# EAGLE library part 6120XX22021_61202622021 (library Eagle_WR-BHD (rev21a))
WR-BHD 2.54 mm Male Box Header with short lever KIND PROPERTIES: Pitch 2.54 mm Gender:Male MATERIAL PROPERTIES: Insulator Material:PBT Insulator Flammability Rating UL94 V-0 Insulator Color:Black Contact Material :Copper Alloy Contact Plating :Gold Contact Type: Stamped GENERAL INFORMATION: Operating Temperature:-40 °C up to +125 °C Compliance:RoHS Working Voltage: 250 V (AC) Withstanding Voltage:500 V (AC) Contact Resistance: 20 mΩ Insulation Resistance:1000 MΩ PACKAGING PROPERTIES Packaging :Tray <https://www.we-online.de/katalog/media/o77864v209%20Family_61201022821.jpg> Details see: https://www.we-online.de/katalog/en/em/BHD_2_54_MALE_BOX_HEADER_WITH_SHORT_LEVER_6120XX22021 Updated by Yingchun,Shan 2019-10-30 2019 (C) Würth Elektronik
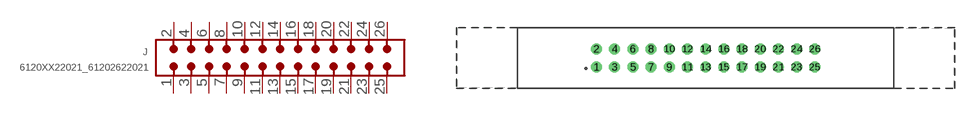
[diagram p149: symbol with the pads of 61202622021; footprint 61202622021]

Designator prefix J

## 6120XX22021_61202622021 (CONTACT-RESISTANCE: 20mOhm; DATASHEET-URL: https://www.we-online.com/catalog/datasheet/61202622021.pdf; GENDER: Male; IR: 3A; L: 52.52mm; MOUNT: THT; PACKAGING: Tray; PART-NUMBER: 61202622021; PINS: 26; PITCH: 2.54mm; TYPE: Straight; VALUE: 61202622021; WORKING-VOLTAGE: 250V(AC))  [61202622021]
1  1  pas
2  2  pas
3  3  pas
4  4  pas
5  5  pas
6  6  pas
7  7  pas
8  8  pas
9  9  pas
10  10  pas
11  11  pas
12  12  pas
13  13  pas
14  14  pas
15  15  pas
16  16  pas
17  17  pas
18  18  pas
19  19  pas
20  20  pas
21  21  pas
22  22  pas
23  23  pas
24  24  pas
25  25  pas
26  26  pas

## Footprint 61202622021 (pad centres in mm)
WR-BHD 2.54 mm Male Box Header with short lever, 26 Pins
drill 1.02: 1 -15.24,-1.27; 2 -15.24,1.27; 3 -12.7,-1.27; 4 -12.7,1.27; 5 -10.16,-1.27; 6 -10.16,1.27; 7 -7.62,-1.27; 8 -7.62,1.27; 9 -5.08,-1.27; 10 -5.08,1.27; 11 -2.54,-1.27; 12 -2.54,1.27; 13 0,-1.27; 14 0,1.27; 15 2.54,-1.27; 16 2.54,1.27; 17 5.08,-1.27; 18 5.08,1.27; 19 7.62,-1.27; 20 7.62,1.27; 21 10.16,-1.27; 22 10.16,1.27; 23 12.7,-1.27; 24 12.7,1.27; 25 15.24,-1.27; 26 15.24,1.27